# Altium footprint library con-pinhead.PcbLib: 23 footprints (part 2 of 2)
Each footprint in its own frame and in the unit in brackets; x right, y up, seen from the top. Pads: shape width x height; smd on the part's side, far side on the other; paste and mask are expansions set on the pad; w line width, h text height; cw(c..) or ccw(c..) is an arc to the next point about the centre after c.
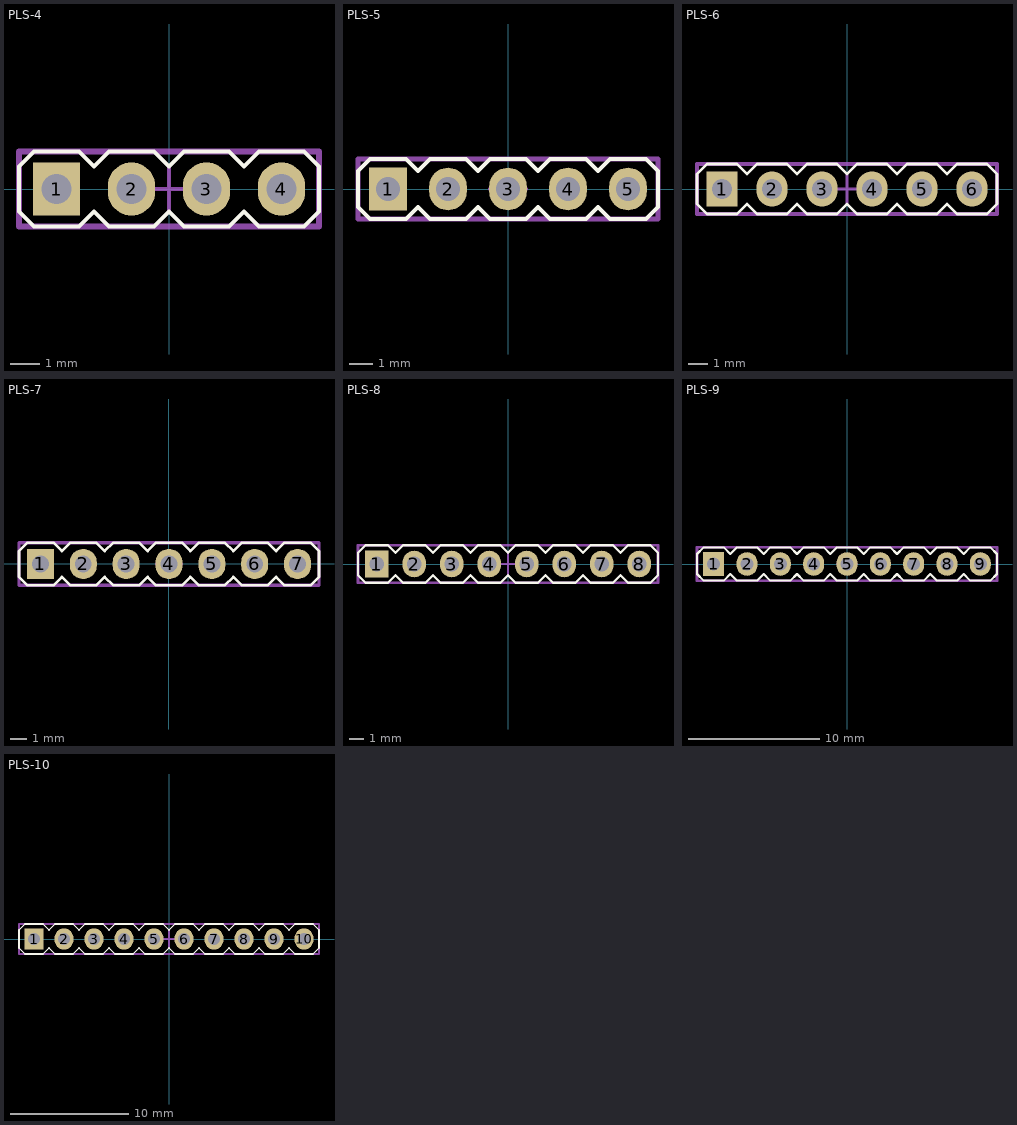
[diagram p1: the footprints below, top view; thin cyan lines are the x and y axes]

## PLS-4 [mm]
height 6
pads (4):
  rect 1.6x1.8 hole 1: 1(-3.81,0)
  oval 1.6x1.8 hole 1: 2(-1.27,0) 3(1.27,0) 4(3.81,0)
Top Overlay:
  lines w0.15: -5.08,-0.762 -4.572,-1.27 -3.048,-1.27 -2.54,-0.762 -2.032,-1.27 -0.508,-1.27 0,-0.762 0.508,-1.27 2.032,-1.27 2.54,-0.762 3.048,-1.27 4.572,-1.27 5.08,-0.762 5.08,0.762 4.572,1.27 3.048,1.27 2.54,0.762 2.032,1.27 0.508,1.27 0,0.762 -0.508,1.27 -2.032,1.27 -2.54,0.762 -3.048,1.27 -4.572,1.27 -5.08,0.762 -5.08,-0.762
Top Assembly (Mech3):
  lines w0.15: -5.08,-1.27 5.08,-1.27 5.08,1.27 -5.08,1.27 -5.08,-1.27
Top Courtyard:
  lines w0.15: -0.762,0 0.762,0 ; 0,-0.762 0,0.762
  lines w0.2: -5.08,-1.27 -5.08,1.27 5.08,1.27 5.08,-1.27 -5.08,-1.27

## PLS-5 [mm]
height 6
pads (5):
  rect 1.6x1.8 hole 1: 1(-5.08,0)
  oval 1.6x1.8 hole 1: 2(-2.54,0) 3(0,0) 4(2.54,0) 5(5.08,0)
Top Overlay:
  lines w0.15: -6.35,-0.762 -5.842,-1.27 -4.318,-1.27 -3.81,-0.762 -3.302,-1.27 -1.778,-1.27 -1.27,-0.762 -0.762,-1.27 0.762,-1.27 1.27,-0.762 1.778,-1.27 3.302,-1.27 3.81,-0.762 4.318,-1.27 5.842,-1.27 6.35,-0.762 6.35,0.762 5.842,1.27 4.318,1.27 3.81,0.762 3.302,1.27 1.778,1.27 1.27,0.762 0.762,1.27 -0.762,1.27 -1.27,0.762 -1.778,1.27 -3.302,1.27 -3.81,0.762 -4.318,1.27 -5.842,1.27 -6.35,0.762 -6.35,-0.762
Top Assembly (Mech3):
  lines w0.15: -6.35,-1.27 6.35,-1.27 6.35,1.27 -6.35,1.27 -6.35,-1.27
Top Courtyard:
  lines w0.15: -0.762,0 0.762,0 ; 0,-0.762 0,0.762
  lines w0.2: -6.35,-1.27 -6.35,1.27 6.35,1.27 6.35,-1.27 -6.35,-1.27

## PLS-6 [mm]
height 6
pads (6):
  rect 1.6x1.8 hole 1: 1(-6.35,0)
  oval 1.6x1.8 hole 1: 2(-3.81,0) 3(-1.27,0) 4(1.27,0) 5(3.81,0) 6(6.35,0)
Top Overlay:
  lines w0.15: -7.62,-0.762 -7.62,0.762 -7.112,1.27 -5.588,1.27 -5.08,0.762 -4.572,1.27 -3.048,1.27 -2.54,0.762 -2.032,1.27 -0.508,1.27 0,0.762 0.508,1.27 2.032,1.27 2.54,0.762 3.048,1.27 4.572,1.27 5.08,0.762 5.588,1.27 7.112,1.27 7.62,0.762 7.62,-0.762 7.112,-1.27 5.588,-1.27 5.08,-0.762 4.572,-1.27 3.048,-1.27 2.54,-0.762 2.032,-1.27 0.508,-1.27 0,-0.762 -0.508,-1.27 -2.032,-1.27 -2.54,-0.762 -3.048,-1.27 -4.572,-1.27 -5.08,-0.762 -5.588,-1.27 -7.112,-1.27 -7.62,-0.762
Top Assembly (Mech3):
  lines w0.15: -7.62,-1.27 7.62,-1.27 7.62,1.27 -7.62,1.27 -7.62,-1.27
Top Courtyard:
  lines w0.15: -0.762,0 0.762,0 ; 0,-0.762 0,0.762
  lines w0.2: -7.62,-1.27 -7.62,1.27 7.62,1.27 7.62,-1.27 -7.62,-1.27

## PLS-7 [mm]
height 6
pads (7):
  rect 1.6x1.8 hole 1: 1(-7.62,0)
  oval 1.6x1.8 hole 1: 2(-5.08,0) 3(-2.54,0) 4(0,0) 5(2.54,0) 6(5.08,0) 7(7.62,0)
Top Overlay:
  lines w0.15: -8.89,-0.762 -8.89,0.762 -8.382,1.27 -6.858,1.27 -6.35,0.762 -5.842,1.27 -4.318,1.27 -3.81,0.762 -3.302,1.27 -1.778,1.27 -1.27,0.762 -0.762,1.27 0.762,1.27 1.27,0.762 1.778,1.27 3.302,1.27 3.81,0.762 4.318,1.27 5.842,1.27 6.35,0.762 6.858,1.27 8.382,1.27 8.89,0.762 8.89,-0.762 8.382,-1.27 6.858,-1.27 6.35,-0.762 5.842,-1.27 4.318,-1.27 3.81,-0.762 3.302,-1.27 1.778,-1.27 1.27,-0.762 0.762,-1.27 -0.762,-1.27 -1.27,-0.762 -1.778,-1.27 -3.302,-1.27 -3.81,-0.762 -4.318,-1.27 -5.842,-1.27 -6.35,-0.762 -6.858,-1.27 -8.382,-1.27 -8.89,-0.762
Top Assembly (Mech3):
  lines w0.15: -8.89,-1.27 -8.89,1.27 8.89,1.27 8.89,-1.27 -8.89,-1.27
Top Courtyard:
  lines w0.15: -0.762,0 0.762,0 ; 0,-0.762 0,0.762
  lines w0.2: -8.89,-1.27 -8.89,1.27 8.89,1.27 8.89,-1.27 -8.89,-1.27
3D body "PLS-7_(DS1021_CONNFLY).stp": height 8.7, standoff -3, extent -8.89,-1.27 8.89,1.27

## PLS-8 [mm]
height 6
pads (8):
  rect 1.6x1.8 hole 1: 1(-8.89,0)
  oval 1.6x1.8 hole 1: 2(-6.35,0) 3(-3.81,0) 4(-1.27,0) 5(1.27,0) 6(3.81,0) 7(6.35,0) 8(8.89,0)
Top Overlay:
  lines w0.15: -10.16,-0.762 -10.16,0.762 -9.652,1.27 -8.128,1.27 -7.62,0.762 -7.112,1.27 -5.588,1.27 -5.08,0.762 -4.572,1.27 -3.048,1.27 -2.54,0.762 -2.032,1.27 -0.508,1.27 0,0.762 0.508,1.27 2.032,1.27 2.54,0.762 3.048,1.27 4.572,1.27 5.08,0.762 5.588,1.27 7.112,1.27 7.62,0.762 8.128,1.27 9.652,1.27 10.16,0.762 10.16,-0.762 9.652,-1.27 8.128,-1.27 7.62,-0.762 7.112,-1.27 5.588,-1.27 5.08,-0.762 4.572,-1.27 3.048,-1.27 2.54,-0.762 2.032,-1.27 0.508,-1.27 0,-0.762 -0.508,-1.27 -2.032,-1.27 -2.54,-0.762 -3.048,-1.27 -4.572,-1.27 -5.08,-0.762 -5.588,-1.27 -7.112,-1.27 -7.62,-0.762 -8.128,-1.27 -9.652,-1.27 -10.16,-0.762
Top Assembly (Mech3):
  lines w0.15: -10.16,-1.27 -10.16,1.27 10.16,1.27 10.16,-1.27 -10.16,-1.27
Top Courtyard:
  lines w0.15: -0.762,0 0.762,0 ; 0,-0.762 0,0.762
  lines w0.2: -10.16,-1.27 -10.16,1.27 10.16,1.27 10.16,-1.27 -10.16,-1.27

## PLS-9 [mm]
height 6
pads (9):
  rect 1.6x1.8 hole 1: 1(-10.16,0)
  oval 1.6x1.8 hole 1: 2(-7.62,0) 3(-5.08,0) 4(-2.54,0) 5(0,0) 6(2.54,0) 7(5.08,0) 8(7.62,0) 9(10.16,0)
Top Overlay:
  lines w0.15: -11.43,-0.762 -11.43,0.762 -10.922,1.27 -9.398,1.27 -8.89,0.762 -8.382,1.27 -6.858,1.27 -6.35,0.762 -5.842,1.27 -4.318,1.27 -3.81,0.762 -3.302,1.27 -1.778,1.27 -1.27,0.762 -0.762,1.27 0.762,1.27 1.27,0.762 1.778,1.27 3.302,1.27 3.81,0.762 4.318,1.27 5.842,1.27 6.35,0.762 6.858,1.27 8.382,1.27 8.89,0.762 9.398,1.27 10.922,1.27 11.43,0.762 11.43,-0.762 10.922,-1.27 9.398,-1.27 8.89,-0.762 8.382,-1.27 6.858,-1.27 6.35,-0.762 5.842,-1.27 4.318,-1.27 3.81,-0.762 3.302,-1.27 1.778,-1.27 1.27,-0.762 0.762,-1.27 -0.762,-1.27 -1.27,-0.762 -1.778,-1.27 -3.302,-1.27 -3.81,-0.762 -4.318,-1.27 -5.842,-1.27 -6.35,-0.762 -6.858,-1.27 -8.382,-1.27 -8.89,-0.762 -9.398,-1.27 -10.922,-1.27 -11.43,-0.762
Top Assembly (Mech3):
  lines w0.15: -11.43,-1.27 -11.43,1.27 11.43,1.27 11.43,-1.27 -11.43,-1.27
Top Courtyard:
  lines w0.15: -0.762,0 0.762,0 ; 0,-0.762 0,0.762
  lines w0.2: -11.43,-1.27 -11.43,1.27 11.43,1.27 11.43,-1.27 -11.43,-1.27

## PLS-10 [mm]
height 6
pads (10):
  rect 1.6x1.8 hole 1: 1(-11.43,0)
  oval 1.6x1.8 hole 1: 2(-8.89,0) 3(-6.35,0) 4(-3.81,0) 5(-1.27,0) 6(1.27,0) 7(3.81,0) 8(6.35,0) 9(8.89,0) 10(11.43,0)
Top Overlay:
  lines w0.15: -12.7,-0.762 -12.192,-1.27 -10.668,-1.27 -10.16,-0.762 -9.652,-1.27 -8.128,-1.27 -7.62,-0.762 -7.112,-1.27 -5.588,-1.27 -5.08,-0.762 -4.572,-1.27 -3.048,-1.27 -2.54,-0.762 -2.032,-1.27 -0.508,-1.27 0,-0.762 0.508,-1.27 2.032,-1.27 2.54,-0.762 3.048,-1.27 4.572,-1.27 5.08,-0.762 5.588,-1.27 7.112,-1.27 7.62,-0.762 8.128,-1.27 9.652,-1.27 10.16,-0.762 10.668,-1.27 12.192,-1.27 12.7,-0.762 12.7,0.762 12.192,1.27 10.668,1.27 10.16,0.762 9.652,1.27 8.128,1.27 7.62,0.762 7.112,1.27 5.588,1.27 5.08,0.762 4.572,1.27 3.048,1.27 2.54,0.762 2.032,1.27 0.508,1.27 0,0.762 -0.508,1.27 -2.032,1.27 -2.54,0.762 -3.048,1.27 -4.572,1.27 -5.08,0.762 -5.588,1.27 -7.112,1.27 -7.62,0.762 -8.128,1.27 -9.652,1.27 -10.16,0.762 -10.668,1.27 -12.192,1.27 -12.7,0.762 -12.7,-0.762
Top Assembly (Mech3):
  lines w0.15: -12.7,-1.27 -12.7,1.27 12.7,1.27 12.7,-1.27 -12.7,-1.27
Top Courtyard:
  lines w0.15: -0.762,0 0.762,0 ; 0,-0.762 0,0.762
  lines w0.2: -12.7,-1.27 12.7,-1.27 12.7,1.27 -12.7,1.27 -12.7,-1.27